# Altium footprint library MEM20520019500A.PcbLib: 1 footprints
Each footprint in its own frame and in the unit in brackets; x right, y up, seen from the top. Pads: shape width x height; smd on the part's side, far side on the other; paste and mask are expansions set on the pad; w line width, h text height; cw(c..) or ccw(c..) is an arc to the next point about the centre after c.
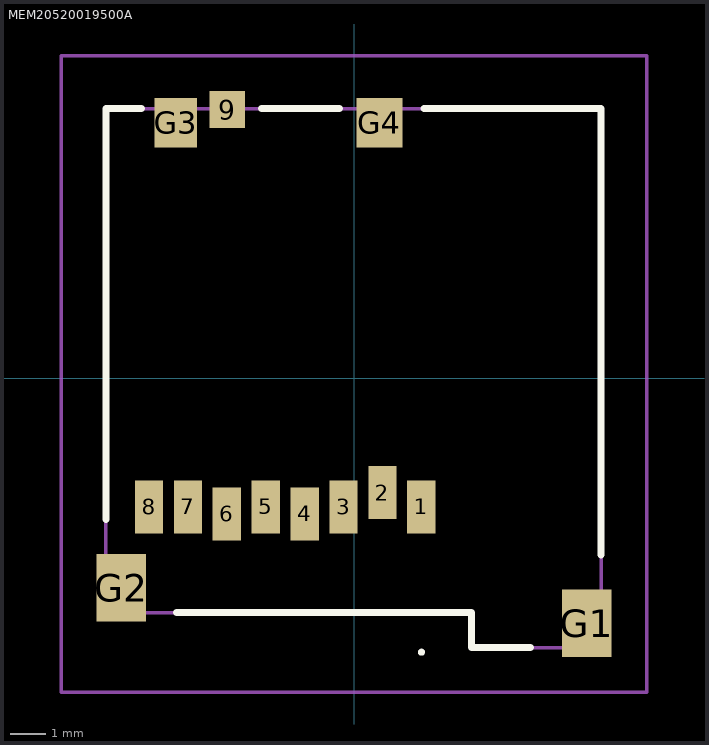
[diagram p0: the footprint, top view; thin cyan lines are the x and y axes]

## MEM20520019500A [mm]
pads (13):
  rect 0.8x1.5 smd: 1(1.905,-3.635) 2(0.805,-3.235) 3(-0.295,-3.635) 4(-1.395,-3.835) 5(-2.495,-3.635) 6(-3.595,-3.835) 7(-4.695,-3.635) 8(-5.795,-3.635)
  rect 1x1.04 smd: 9(-3.585,7.595)
  rect 1.4x1.9 smd: G1(6.575,-6.925) G2(-6.575,-5.925)
  rect 1.2x1.4 smd: G3(-5.035,7.225)
  rect 1.3x1.4 smd: G4(0.715,7.225)
Top Overlay:
  lines w0.1: 1.905,-7.795 cw(c1.905,-7.745) 1.905,-7.695 ; 1.905,-7.795 1.905,-7.795 ; 1.905,-7.795 ccw(c1.905,-7.745) 1.905,-7.695 ; 1.905,-7.695 1.905,-7.695
  lines w0.2: -7.015,-3.995 -7.015,7.625 -6.015,7.625 ; -5.015,-6.625 3.325,-6.625 3.325,-7.615 4.985,-7.615 ; -2.615,7.625 -0.415,7.625 ; 1.985,7.625 6.985,7.625 6.985,-4.995
Mechanical 15:
  lines w0.1: -7.015,7.595 -7.015,-6.625 3.325,-6.625 3.325,-7.615 6.985,-7.615 6.985,7.625 -7.015,7.625
Mechanical 20:
  lines w0.1: -8.275,-8.875 8.275,-8.875 8.275,9.115 -8.275,9.115 -8.275,-8.875